# EAGLE library part BQ51013BRHLT (library Deegou_IC)
BQ51013BRHLT, RF Receiver Chip Maximum of 100kHz, AM, Maximum of 5 V 20-pin VQFN Source: Datasheet <http://docs-europe.electrocomponents.com/webdocs/130f/0900766b8130f4ba.pdf>
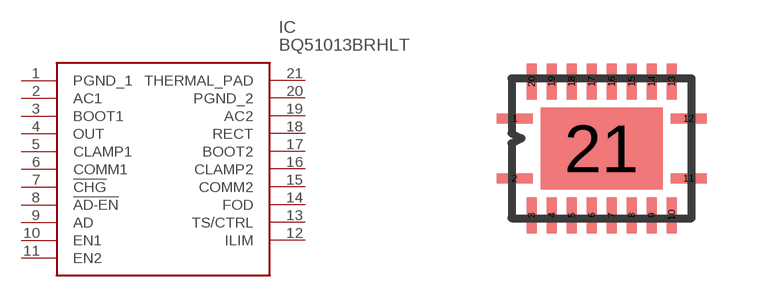
[diagram p169: symbol with the pads of QFN50P450X350X100-21N; footprint QFN50P450X350X100-21N]

Designator prefix IC

## BQ51013BRHLT (ARROW_PART_NUMBER: BQ51013BRHLT; ARROW_PRICE/STOCK: https://www.arrow.com/en/products/bq51013brhlt/texas-instruments; DESCRIPTION: BQ51013BRHLT, RF Receiver Chip Maximum of 100kHz, AM, Maximum of 5 V 20-pin VQFN; HEIGHT: mm; MANUFACTURER_NAME: Texas Instruments; MANUFACTURER_PART_NUMBER: BQ51013BRHLT; RS_PART_NUMBER: 1457212; RS_PRICE/STOCK: http://uk.rs-online.com/web/p/products/1457212)  [QFN50P450X350X100-21N]
1  PGND_1  pwr
2  AC1
3  BOOT1
4  OUT  out
5  CLAMP1
6  COMM1
7  !CHG
8  !AD-EN
9  AD
10  EN1
11  EN2
12  ILIM
13  TS/CTRL
14  FOD
15  COMM2
16  CLAMP2
17  BOOT2
18  RECT
19  AC2
20  PGND_2  pwr
21  THERMAL_PAD

## Footprint QFN50P450X350X100-21N (pad centres in mm)
RHL(R-PVQFN-N20)
smd 0.9 x 0.25: 1 -2.175,0.75; 2 -2.175,-0.75; 11 2.175,-0.75; 12 2.175,0.75
smd 0.25 x 0.9: 3 -1.75,-1.675; 4 -1.25,-1.675; 5 -0.75,-1.675; 6 -0.25,-1.675; 7 0.25,-1.675; 8 0.75,-1.675; 9 1.25,-1.675; 10 1.75,-1.675; 13 1.75,1.675; 14 1.25,1.675; 15 0.75,1.675; 16 0.25,1.675; 17 -0.25,1.675; 18 -0.75,1.675; 19 -1.25,1.675; 20 -1.75,1.675
smd 3.05 x 2.05: 21 0,0